# Altium schematic symbol library Capacitors.SchLib: 51 symbols
Pins are listed as number, name and electrical type; pins without a type are passive.

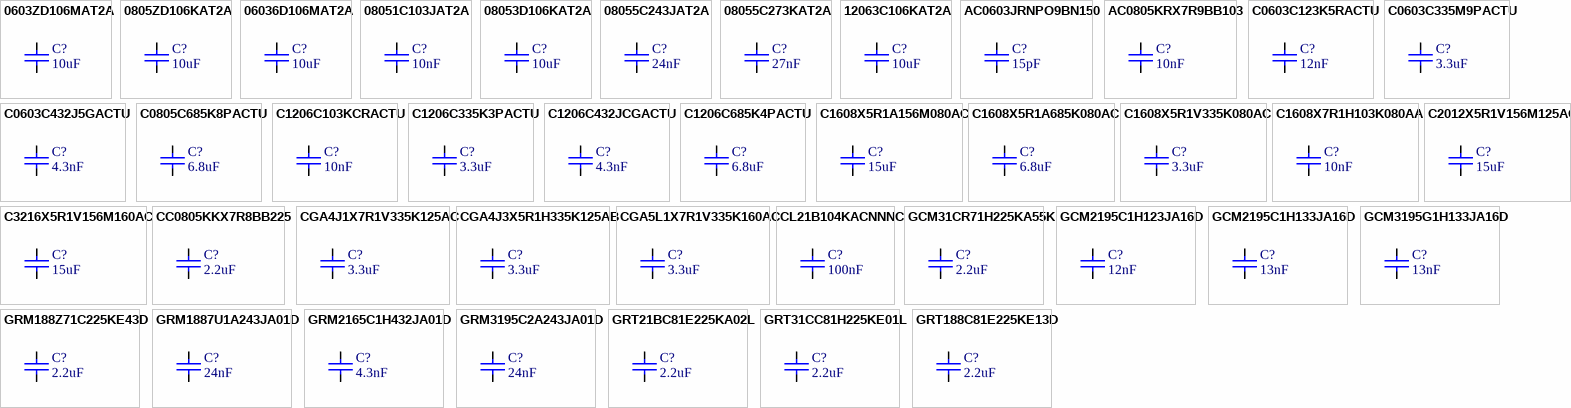
[diagram p0: symbols 0603ZD106MAT2A to GRT188C81E225KE13D]

## 0603ZD106MAT2A
designator C?, comment 10uF
CAP MLCC, 10uF, 10V, 0603 [1608 Metric], ±20%, X5R; Manufacturer: AVX; Manufacturer Part Number: 0603ZD106MAT2A; Value: 10uF; Package: 0603 [1608 Metric]; Supplier 1: Farnell; Supplier Part Number 1: 1867954; ComponentLink1Description: Datasheet; ComponentLink1URL: http://www.farnell.com/datasheets/2237828.pdf; Voltage: 10V; Tolerance: ±20%; Dielectric: X5R; Mounting: SMD; Part Type: MLCC
footprint CAPC1608N (Footprint not found)
pins: 1, 2

## 0805ZD106KAT2A
designator C?, comment 10uF
CAP MLCC, 10uF, 10V, 0805 [2012 Metric], ±10%, X5R; Manufacturer: AVX; Manufacturer Part Number: 0805ZD106KAT2A; Value: 10uF; Package: 0805 [2012 Metric]; Supplier 1: Farnell; Supplier Part Number 1: 1833812; ComponentLink1Description: Datasheet; ComponentLink1URL: http://www.farnell.com/datasheets/2237828.pdf; Voltage: 10V; Tolerance: ±10%; Dielectric: X5R; Mounting: SMD; Part Type: MLCC
footprint CAPC2012N (Chip Capacitor, Body 2.0x1.25mm, IPC Medium Density)
pins: 1, 2

## 06036D106MAT2A
designator C?, comment 10uF
CAP MLCC, 10uF, 6.3V, 0603 [1608 Metric], ±20%, X7R; Manufacturer: AVX; Manufacturer Part Number: 06036D106MAT2A; Value: 10uF; Package: 0603 [1608 Metric]; Supplier 1: Farnell; Supplier Part Number 1: 1833804; ComponentLink1Description: Datasheet; ComponentLink1URL: https://lt.farnell.com/avx/06036d106mat2a/cap-10-f-6-3v-20-x5r-0603/dp/1833804?st=smd%20capacitor; Voltage: 6.3V; Tolerance: ±20%; Dielectric: X7R; Mounting: SMD; Part Type: MLCC
footprint CAPC1608N (Chip Capacitor, Body 1.6x0.8mm, Height 0.55mm, IPC Medium Density)
pins: 1, 2

## 08051C103JAT2A
designator C?, comment 10nF
CAP MLCC, 10nF, 100V, 0805 [2012 Metric], ±5%, X7R; Manufacturer: AVX; Manufacturer Part Number: 08051C103JAT2A; Value: 10nF; Package: 0805 [2012 Metric]; Supplier 1: Farnell; Supplier Part Number 1: 2332713; ComponentLink1Description: Datasheet; ComponentLink1URL: http://www.farnell.com/datasheets/2237835.pdf; Voltage: 100V; Tolerance: ± 5%; Dielectric: X7R; Mounting: SMD; Part Type: MLCC
footprint CAPC2012N (Chip Capacitor, Body 2.0x1.25mm, IPC Medium Density)
pins: 1, 2

## 08053D106KAT2A
designator C?, comment 10uF
CAP MLCC, 10uF, 25V, 0805 [2012 Metric], ±10%, X7R; Manufacturer: AVX; Manufacturer Part Number: 08053D106KAT2A; Value: 10uF; Package: 0805 [2012 Metric]; Supplier 1: Farnell; Supplier Part Number 1: 1867958; ComponentLink1Description: Datasheet; ComponentLink1URL: https://lt.farnell.com/avx/08053d106kat2a/cap-10-f-25v-10-x5r-0805/dp/1867958?st=smd%20capacitor; Voltage: 25V; Tolerance: ± 10%; Dielectric: X7R; Mounting: SMD; Part Type: MLCC
footprint CAPC2012N (Chip Capacitor, Body 2.0x1.25mm, IPC Medium Density)
pins: 1, 2

## 08055C243JAT2A
designator C?, comment 24nF
CAP MLCC, 24nF, 50V, 0805 [2012 Metric], ±5%, X7R; Manufacturer: AVX; Manufacturer Part Number: 08055C243JAT2A; Value: 24nF; Package: 0805 [2012 Metric]; Supplier 1: Mouser; Supplier Part Number 1: 581-08055C243JAT2A; ComponentLink1Description: Datasheet; ComponentLink1URL: https://eu.mouser.com/ProductDetail/AVX/08055C243JAT2A/?qs=sGAEpiMZZMuMW9TJLBQkXsc7mecWxmGaZ7S9zCM%2FAxU%3D; Voltage: 50V; Tolerance: ± 5%; Dielectric: X7R; Mounting: SMD; Part Type: MLCC
footprint CAPC2012N (Footprint not found)
pins: 1, 2

## 08055C273KAT2A
designator C?, comment 27nF
CAP MLCC, 27nF, 50V, 0805 [2012 Metric], ±10%, X7R; Manufacturer: AVX; Manufacturer Part Number: 08055C273KAT2A; Value: 27nF; Package: 0805 [2012 Metric]; Supplier 1: Farnell; Supplier Part Number 1: 2332799; ComponentLink1Description: Datasheet; ComponentLink1URL: http://www.farnell.com/datasheets/2237835.pdf; Voltage: 50V; Tolerance: ±10%; Dielectric: X7R; Mounting: SMD; Part Type: MLCC
footprint CAPC2012N (Chip Capacitor, Body 2.0x1.25mm, IPC Medium Density)
pins: 1, 2

## 12063C106KAT2A
designator C?, comment 10uF
CAP MLCC, 10uF, 25V, 1206 [3216 Metric], ±10%, X7R; Manufacturer: AVX; Manufacturer Part Number: 12063C106KAT2A; Value: 10uF; Package: 1206 [3216 Metric]; Supplier 1: Farnell; Supplier Part Number 1: 2094044; ComponentLink1Description: Datasheet; ComponentLink1URL: http://www.farnell.com/datasheets/2260753.pdf; Voltage: 25V; Tolerance: ±10%; Dielectric: X7R; Mounting: SMD; Part Type: MLCC
footprint CAPC3216N (Chip Capacitor, Body 3.2x1.6mm, IPC Medium Density)
pins: 1, 2

## AC0603JRNPO9BN150
designator C?, comment 15pF
CAP MLCC, 15pF, 50V, 0603 [1608 Metric], ±5%, X7R; Manufacturer: YAGEO; Manufacturer Part Number: AC0603JRNPO9BN150; Value: 15pF; Package: 0603 [1608 Metric]; Supplier 1: Farnell; Supplier Part Number 1: 3368986; ComponentLink1Description: Datasheet; ComponentLink1URL: http://www.farnell.com/datasheets/2899221.pdf; Voltage: 50V; Tolerance: ±5%; Dielectric: X7R; Mounting: SMD; Part Type: MLCC
footprint CAPC1608N (Footprint not found)
pins: 1, 2

## AC0805KRX7R9BB103
designator C?, comment 10nF
CAP MLCC, 10nF, 50V, 0805 [2012 Metric], ±10%, X7R; Manufacturer: YAGEO; Manufacturer Part Number: AC0805KRX7R9BB103; Value: 10nF; Package: 0805 [2012 Metric]; Supplier 1: Farnell; Supplier Part Number 1: 3369005; ComponentLink1Description: Datasheet; ComponentLink1URL: http://www.farnell.com/datasheets/2899221.pdf; Voltage: 50V; Tolerance: ±10%; Dielectric: X7R; Mounting: SMD; Part Type: MLCC
footprint CAPC2012N (Footprint not found)
pins: 1, 2

## C0603C123K5RACTU
designator C?, comment 12nF
CAP MLCC, 12nF, 50V, 0603 [1608 Metric], ±10%, X7R; Manufacturer: KEMET; Manufacturer Part Number: C0603C123K5RACTU; Value: 12nF; Package: 0603 [1608 Metric]; Supplier 1: Farnell; Supplier Part Number 1: 1865534; ComponentLink1Description: Datasheet; ComponentLink1URL: https://lt.farnell.com/kemet/c0603c123k5ractu/cap-0-012-f-50v-10-x7r-0603/dp/1865534?st=0603; Voltage: 50V; Tolerance: ± 10%; Dielectric: X7R; Mounting: SMD; Part Type: MLCC
footprint CAPC1608N (Chip Capacitor, Body 1.6x0.8mm, Height 0.55mm, IPC Medium Density)
pins: 1, 2

## C0603C335M9PACTU
designator C?, comment 3.3uF
CAP MLCC, 3.3uF, 6.3V, 0603 [1608 Metric], ±20%, X5R; Manufacturer: KEMET; Manufacturer Part Number: C0603C335M9PACTU; Value: 3.3uF; Package: 0603 [1608 Metric]; Supplier 1: Farnell; Supplier Part Number 1: 1108324; ComponentLink1Description: Datasheet; ComponentLink1URL: https://api.kemet.com/component-edge/download/specsheet/C0603C335M9PACTU.pdf; Voltage: 6.3V; Tolerance: ± 20%; Dielectric: X5R; Mounting: SMD; Part Type: MLCC
footprint CAPC1608N (Chip Capacitor, Body 1.6x0.8mm, Height 0.55mm, IPC Medium Density)
pins: 1, 2

## C0603C432J5GACTU
designator C?, comment 4.3nF
CAP MLCC, 4.3nF, 50V, 0603 [1608 Metric], ±5%, C0G / NP0; Manufacturer: KEMET; Manufacturer Part Number: C0603C432J5GACTU; Value: 4.3nF; Package: 0603 [1608 Metric]; Supplier 1: Farnell; Supplier Part Number 1: 1865494; ComponentLink1Description: Datasheet; ComponentLink1URL: https://api.kemet.com/component-edge/download/specsheet/C0603C432J5GACTU.pdf; Voltage: 50V; Tolerance: ± 5%; Dielectric: C0G / NP0; Mounting: SMD; Part Type: MLCC
footprint CAPC1608N (Chip Capacitor, Body 1.6x0.8mm, Height 0.55mm, IPC Medium Density)
pins: 1, 2

## C0805C685K8PACTU
designator C?, comment 6.8uF
CAP MLCC, 6.8uF, 10V, 0805 [2012 Metric], ±10%, X5R; Manufacturer: KEMET; Manufacturer Part Number: C0805C685K8PACTU; Value: 6.8uF; Package: 0805 [2012 Metric]; Supplier 1: Farnell; Supplier Part Number 1: 1572632; ComponentLink1Description: Datasheet; ComponentLink1URL: https://api.kemet.com/component-edge/download/specsheet/C0805C685K8PACTU.pdf; Voltage: 10V; Tolerance: ± 10%; Dielectric: X5R; Mounting: SMD; Part Type: MLCC
footprint CAPC2012N (Chip Capacitor, Body 2.0x1.25mm, IPC Medium Density)
pins: 1, 2

## C1206C103KCRACTU
designator C?, comment 10nF
CAP MLCC, 10nF, 500V, 1206 [3216 Metric], ±10%, X7R; Manufacturer: KEMET; Manufacturer Part Number: C1206C103KCRACTU; Value: 10nF; Package: 1206 [3216 Metric]; Supplier 1: Farnell; Supplier Part Number 1: 1288241; ComponentLink1Description: Datasheet; ComponentLink1URL: https://api.kemet.com/component-edge/download/specsheet/C1206C103KCRACTU.pdf; Voltage: 500V; Tolerance: ±10%; Dielectric: X7R; Mounting: SMD; Part Type: MLCC
footprint CAPC3216N (Footprint not found)
pins: 1, 2

## C1206C335K3PACTU
designator C?, comment 3.3uF
CAP MLCC, 3.3uF, 25V, 1206 [3216 Metric], ±10%, X5R; Manufacturer: KEMET; Manufacturer Part Number: C1206C335K3PACTU; Value: 3.3uF; Package: 1206 [3216 Metric]; Supplier 1: Farnell; Supplier Part Number 1: 2773330; ComponentLink1Description: Datasheet; ComponentLink1URL: https://api.kemet.com/component-edge/download/specsheet/C1206C335K3PACTU.pdf; Voltage: 25V; Tolerance: ±10%; Dielectric: X5R; Mounting: SMD; Part Type: MLCC
footprint CAPC3216N (Chip Capacitor, Body 3.2x1.6mm, IPC Medium Density)
pins: 1, 2

## C1206C432JCGACTU
designator C?, comment 4.3nF
CAP MLCC, 4.3nF, 500V, 1206 [3216 Metric], ±5%, C0G / NP0; Manufacturer: KEMET; Manufacturer Part Number: C1206C432JCGACTU; Value: 4.3nF; Package: 1206 [3216 Metric]; Supplier 1: Farnell; Supplier Part Number 1: 3503361; ComponentLink1Description: Datasheet; ComponentLink1URL: https://api.kemet.com/component-edge/download/specsheet/C1206C432JCGACTU.pdf; Voltage: 500V; Tolerance: ± 5%; Dielectric: C0G / NP0; Mounting: SMD; Part Type: MLCC
footprint CAPC3216N (Chip Capacitor, Body 3.2x1.6mm, IPC Medium Density)
pins: 1, 2

## C1206C685K4PACTU
designator C?, comment 6.8uF
CAP MLCC, 6.8 µF, 16 V, 1206 [3216 Metric], ± 10%, X5R; Manufacturer: KEMET; Manufacturer Part Number: C1206C685K4PACTU; Voltage: 16V; Value: 6.8uF; Package: 1206 [3216 Metric]; Supplier 1: Farnell; Supplier Part Number 1: 1572638; ComponentLink1Description: Datasheet; ComponentLink1URL: https://api.kemet.com/component-edge/download/specsheet/C1206C685K4PACTU.pdf; Tolerance: ±10%; Dielectric: X5R; Mounting: SMD; Part Type: MLCC
footprint CAPC3216N (Chip Capacitor, Body 3.2x1.6mm, IPC Medium Density)
pins: 1, 2

## C1608X5R1A156M080AC
designator C?, comment 15uF
CAP MLCC, 15uF, 10V, 0603 [1608 Metric], ±20%, X5R; Manufacturer: TDK; Manufacturer Part Number: C1608X5R1A156M080AC; Value: 15uF; Package: 0603 [1608 Metric]; Supplier 1: Farnell; Supplier Part Number 1: 3416097; ComponentLink1Description: Datasheet; ComponentLink1URL: http://www.farnell.com/datasheets/2859305.pdf; Voltage: 10V; Tolerance: ± 20%; Dielectric: X5R; Mounting: SMD; Part Type: MLCC
footprint CAPC1608N (Chip Capacitor, Body 1.6x0.8mm, Height 0.55mm, IPC Medium Density)
pins: 1, 2

## C1608X5R1A685K080AC
designator C?, comment 6.8uF
CAP MLCC, 6.8uF, 10V, 0603 [1608 Metric], ±10%, X5R; Manufacturer: TDK; Manufacturer Part Number: C1608X5R1A685K080AC; Value: 6.8uF; Package: 0603 [1608 Metric]; Supplier 1: Farnell; Supplier Part Number 1: 2211165; ComponentLink1Description: Datasheet; ComponentLink1URL: http://www.farnell.com/datasheets/2792994.pdf; Voltage: 10V; Tolerance: ±10%; Dielectric: X5R; Mounting: SMD; Part Type: MLCC
footprint CAPC1608N (Chip Capacitor, Body 1.6x0.8mm, Height 0.55mm, IPC Medium Density)
pins: 1, 2

## C1608X5R1V335K080AC
designator C?, comment 3.3uF
CAP MLCC, 3.3uF, 35V, 0603 [1608 Metric], ±10%, X5R; Manufacturer: TDK; Manufacturer Part Number: C1608X5R1V335K080AC; Voltage: 50V; Dielectric: X7R; Value: 3.3uF; Package: 0603 [1608 Metric]; Supplier 1: Farnell; Supplier Part Number 1: 3416108; ComponentLink1Description: Datasheet; ComponentLink1URL: http://www.farnell.com/datasheets/2859305.pdf; Tolerance: ±10%; Mounting: SMD; Part Type: MLCC
footprint CAPC1608N (Chip Capacitor, Body 1.6x0.8mm, Height 0.55mm, IPC Medium Density)
pins: 1, 2

## C1608X7R1H103K080AA
designator C?, comment 10nF
CAP MLCC, 10nF, 50V, 0603 [1608 Metric], ±10%, X7R; Manufacturer: TDK; Manufacturer Part Number: C1608X7R1H103K080AA; Value: 10nF; Package: 0603 [1608 Metric]; Supplier 1: Farnell; Supplier Part Number 1: 1907315; ComponentLink1Description: Datasheet; ComponentLink1URL: http://www.farnell.com/datasheets/2792994.pdf; Voltage: 50V; Tolerance: ±10%; Dielectric: X7R; Mounting: SMD; Part Type: MLCC
footprint CAPC1608N (Chip Capacitor, Body 1.6x0.8mm, Height 0.55mm, IPC Medium Density)
pins: 1, 2

## C2012X5R1V156M125AC
designator C?, comment 15uF
CAP MLCC, 15uF, 35V, 0805 [2012 Metric], ±20%, X5R; Manufacturer: TDK; Manufacturer Part Number: C2012X5R1V156M125AC; Value: 15uF; Package: 0805 [2012 Metric]; Supplier 1: Farnell; Supplier Part Number 1: 3416166; ComponentLink1Description: Datasheet; ComponentLink1URL: http://www.farnell.com/datasheets/2859305.pdf; Voltage: 35V; Tolerance: ± 20%; Dielectric: X5R; Mounting: SMD; Part Type: MLCC
footprint CAPC2012N (Chip Capacitor, Body 2.0x1.25mm, IPC Medium Density)
pins: 1, 2

## C3216X5R1V156M160AC
designator C?, comment 15uF
CAP MLCC, 15uF, 35V, 1206 [3216 Metric], ±20%, X5R; Manufacturer: TDK; Manufacturer Part Number: C3216X5R1V156M160AC; Value: 15uF; Package: 1206 [3216 Metric]; Supplier 1: Farnell; Supplier Part Number 1: 3416223; ComponentLink1Description: Datasheet; ComponentLink1URL: http://www.farnell.com/datasheets/2859305.pdf; Voltage: 35V; Tolerance: ± 20%; Dielectric: X5R; Mounting: SMD; Part Type: MLCC
footprint CAPC3216N (Chip Capacitor, Body 3.2x1.6mm, IPC Medium Density)
pins: 1, 2

## CC0805KKX7R8BB225
designator C?, comment 2.2uF
CAP MLCC, 2.2uF 25V, 0805 [2012 Metric], ±10%, X7R; Manufacturer: YAGEO; Manufacturer Part Number: CC0805KKX7R8BB225; Value: 2.2uF; Package: 0805 [2012 Metric]; Supplier 1: Farnell; Supplier Part Number 1: 1458904; ComponentLink1Description: Datasheet; ComponentLink1URL: http://www.farnell.com/datasheets/2167236.pdf; Voltage: 25V; Tolerance: ±10%; Dielectric: X7R; Mounting: SMD; Part Type: MLCC
footprint CAPC2012N (Chip Capacitor, Body 2.0x1.25mm, IPC Medium Density)
pins: 1, 2

## CGA4J1X7R1V335K125AC
designator C?, comment 3.3uF
CAP MLCC, 3.3uF, 35V, 0805 [2012 Metric], ±10%, X7R; Manufacturer: TDK; Manufacturer Part Number: CGA4J1X7R1V335K125AC; Value: 3.3uF; Package: 0805 [2012 Metric]; Supplier 1: Farnell; Supplier Part Number 1: 3490076; ComponentLink1Description: Datasheet; ComponentLink1URL: http://www.farnell.com/datasheets/2915229.pdf; Voltage: 35V; Tolerance: ±10%; Dielectric: X7R; Mounting: SMD; Part Type: MLCC
footprint CAPC2012N (Chip Capacitor, Body 2.0x1.25mm, IPC Medium Density)
pins: 1, 2

## CGA4J3X5R1H335K125AB
designator C?, comment 3.3uF
CAP MLCC, 3.3uF, 50V, 0805 [2012 Metric], ±10%, X5R; Manufacturer: TDK; Manufacturer Part Number: CGA4J3X5R1H335K125AB; Value: 3.3uF; Package: 0805 [2012 Metric]; Supplier 1: Farnell; Supplier Part Number 1: 2210978; ComponentLink1Description: Datasheet; ComponentLink1URL: http://www.farnell.com/datasheets/1807242.pdf; Voltage: 50V; Tolerance: ± 10%; Dielectric: X5R; Mounting: SMD; Part Type: MLCC
footprint CAPC2012N (Chip Capacitor, Body 2.0x1.25mm, IPC Medium Density)
pins: 1, 2

## CGA5L1X7R1V335K160AC
designator C?, comment 3.3uF
CAP MLCC, 3.3uF, 35V, 1206 [3216 Metric], ± 10%, X7R; Manufacturer: TDK; Manufacturer Part Number: CGA5L1X7R1V335K160AC; Value: 3.3uF; Package: 1206 [3216 Metric]; Supplier 1: Farnell; Supplier Part Number 1: 3651375RL; ComponentLink1Description: Datasheet; ComponentLink1URL: http://www.farnell.com/datasheets/3184188.pdf; Voltage: 35V; Tolerance: ± 10%; Dielectric: X7R; Mounting: SMD; Part Type: MLCC
footprint CAPC3216N (Chip Capacitor, Body 3.2x1.6mm, IPC Medium Density)
pins: 1, 2

## CL21B104KACNNNC
designator C?, comment 100nF
CAP MLCC, 100nF, 25V, 0805 [2012 Metric], ±10%, X7R; Manufacturer: SAMSUNG ELECTRO-MECHANICS; Manufacturer Part Number: CL21B104KACNNNC; Value: 100nF; Package: 0805 [2012 Metric]; Supplier 1: Farnell; Supplier Part Number 1: 3010149; ComponentLink1Description: Datasheet; ComponentLink1URL: http://www.farnell.com/datasheets/2710651.pdf; Voltage: 25V; Tolerance: ±10%; Dielectric: X7R; Mounting: SMD; Part Type: MLCC
footprint CAPC2012N (Chip Capacitor, Body 2.0x1.25mm, IPC Medium Density)
pins: 1, 2

## GCM31CR71H225KA55K
designator C?, comment 2.2uF
CAP MLCC, 2.2uF, 50V, 1206 [3216 Metric], ±10%, X7R; Manufacturer: MURATA; Manufacturer Part Number: GCM31CR71H225KA55K; Value: 2.2uF; Package: 1206 [3216 Metric]; Supplier 1: Farnell; Supplier Part Number 1: 2688488; ComponentLink1Description: Datasheet; ComponentLink1URL: https://4donline.ihs.com/images/VipMasterIC/IC/MURE/MURE-S-A0010578466/MURE-S-A0010578330-1.pdf?hkey=6D3A4C79FDBF58556ACFDE234799DDF0; Voltage: 50V; Tolerance: ±10%; Dielectric: X7R; Mounting: SMD; Part Type: MLCC
footprint CAPC3216N (Chip Capacitor, Body 3.2x1.6mm, IPC Medium Density)
pins: 1, 2

## GCM2195C1H123JA16D
designator C?, comment 12nF
CAP MLCC, 12nF, 50V, 0805 [2012 Metric], ±5%, C0G / NP0; Manufacturer: MURATA; Manufacturer Part Number: GCM2195C1H123JA16D; Value: 12nF; Package: 0805 [2012 Metric]; Supplier 1: Farnell; Supplier Part Number 1: 2218703; ComponentLink1Description: Datasheet; ComponentLink1URL: https://lt.farnell.com/murata/gcm2195c1h123ja16d/cap-12000pf-50v-5-c0g-np0-0805/dp/2218703?st=0805; Voltage: 50V; Tolerance: ± 5%; Dielectric: C0G / NP0; Mounting: SMD; Part Type: MLCC
footprint CAPC2012N (Chip Capacitor, Body 2.0x1.25mm, IPC Medium Density)
pins: 1, 2

## GCM2195C1H133JA16D
designator C?, comment 13nF
CAP MLCC, 13nF, 50V, 0805 [2012 Metric], ±5%, C0G (NP0); Manufacturer: Murata Electronics; Manufacturer Part Number: GCM2195C1H133JA16D; Value: 13nF; Package: 0805 [2012 Metric]; Supplier 1: MOUSER; Supplier Part Number 1: 81-GCM2195C1H133JA6D; ComponentLink1Description: https://eu.mouser.com/datasheet/2/281/GCM2195C1H133JA16_01-1968110.pdf; ComponentLink1URL: https://eu.mouser.com/ProductDetail/Murata-Electronics/GCM2195C1H133JA16D/?qs=hNud%2FORuBR2X2UyW%252B6zWEA%3D%3D; Voltage: 50V; Tolerance: ± 5 %; Dielectric: C0G (NP0); Mounting: SMD; Part Type: MLCC
footprint CAPC2012N (Chip Capacitor, Body 2.0x1.25mm, IPC Medium Density)
pins: 1, 2

## GCM3195G1H133JA16D
designator C?, comment 13nF
CAP MLCC, 13nF, 50V, 1206 [3216 Metric], ±5%, X8G; Manufacturer: Murata Electronics; Manufacturer Part Number: GCM3195G1H133JA16D; Value: 13nF; Package: 1206 [3216 Metric]; Supplier 1: Mouser; Supplier Part Number 1: 81-GCM3195G1H133JA6D; ComponentLink1Description: Datasheet https://eu.mouser.com/datasheet/2/281/GCM3195G1H133JA16_01-1969102.pdf; ComponentLink1URL: https://eu.mouser.com/ProductDetail/Murata-Electronics/GCM3195G1H133JA16D/?qs=QzBtWTOodeXbZr9O%252BNcRtQ%3D%3D; Voltage: 50V; Tolerance: ± 5%; Dielectric: X8G; Mounting: SMD; Part Type: MLCC
footprint CAPC3216N (Chip Capacitor, Body 3.2x1.6mm, IPC Medium Density)
pins: 1, 2

## GRM188Z71C225KE43D
designator C?, comment 2.2uF
CAP MLCC, 2.2uF, 16V, 0603 [1608 Metric], ±10%, X7R; Manufacturer: MURATA; Manufacturer Part Number: GRM188Z71C225KE43D; Value: 2.2uF; Package: 0603 [1608 Metric]; Supplier 1: Farnell; Supplier Part Number 1: 3581383; ComponentLink1Description: Datasheet; ComponentLink1URL: https://4donline.ihs.com/images/VipMasterIC/IC/MURE/MURE-S-A0010565743/MURE-S-A0010565293-1.pdf?hkey=6D3A4C79FDBF58556ACFDE234799DDF0; Voltage: 16V; Tolerance: ±10%; Dielectric: X7R; Mounting: SMD; Part Type: MLCC
footprint CAPC1608N (Chip Capacitor, Body 1.6x0.8mm, Height 0.55mm, IPC Medium Density)
pins: 1, 2

## GRM1887U1A243JA01D
designator C?, comment 24nF
CAP MLCC, 24nF, 100V, 0603 [1608 Metric], ±5%, U2J; Manufacturer: Murata Electronics; Manufacturer Part Number: GRM1887U1A243JA01D; Voltage: 10V; Value: 24nF; Package: 0603 [1608 Metric]; Supplier 1: Mouser; Supplier Part Number 1: 81-GRM1887U1A243JA1D; ComponentLink1Description: Datasheet; ComponentLink1URL: https://eu.mouser.com/ProductDetail/Murata-Electronics/GRM1887U1A243JA01D/?qs=ui%252B2d9lVEI5YGHIEW3U78Q%3D%3D; Tolerance: ± 5%; Dielectric: U2J; Mounting: SMD; Part Type: MLCC
footprint CAPC1608N (Footprint not found)
pins: 1, 2

## GRM2165C1H432JA01D
designator C?, comment 4.3nF
CAP MLCC, 4.3nF, 250V, 0805 [2012 Metric], ±5%, C0G / NP0; Manufacturer: MURATA; Manufacturer Part Number: GRM2165C1H432JA01D; Voltage: 50V; Value: 4.3nF; Package: 0805 [2012 Metric]; Supplier 1: Farnell; Supplier Part Number 1: 3581388; ComponentLink1Description: Datasheet; ComponentLink1URL: https://4donline.ihs.com/images/VipMasterIC/IC/MURE/MURE-S-A0010861478/MURE-S-A0010860847-1.pdf?hkey=6D3A4C79FDBF58556ACFDE234799DDF0; Tolerance: ± 5%; Dielectric: C0G / NP0; Mounting: SMD; Part Type: MLCC
footprint CAPC2012N (Chip Capacitor, Body 2.0x1.25mm, IPC Medium Density)
pins: 1, 2

## GRM3195C2A243JA01D
designator C?, comment 24nF
CAP MLCC, 24nF, 100V, 1206 [3216 Metric], ± 5%, C0G (NP0); Manufacturer: Murata; Manufacturer Part Number: GRM3195C2A243JA01D; Value: 24nF; Package: 1206 [3216 Metric]; Supplier 1: Mouser; Supplier Part Number 1: 81-GRM3195C2A243JA1D; ComponentLink1Description: Datasheet; ComponentLink1URL: https://eu.mouser.com/ProductDetail/Murata-Electronics/GRM3195C2A243JA01D/?qs=qkDYIeTQ%252BEk%2Fn3fDsYoCdQ%3D%3D; Voltage: 100V; Tolerance: ± 5%; Dielectric: C0G (NP0); Mounting: SMD; Part Type: MLCC
footprint CAPC3216N (Footprint not found)
pins: 1, 2

## GRT21BC81E225KA02L
designator C?, comment 2.2uF
CAP MLCC, 2.2uF, 25V, 0805 [2012 Metric], ±10%, X6S; Manufacturer: MURATA; Manufacturer Part Number: GRT21BC81E225KA02L; Value: 2.2uF; Package: 0805 [2012 Metric]; Supplier 1: Farnell; Supplier Part Number 1: 2672181RL; ComponentLink1Description: Datasheet; ComponentLink1URL: http://www.farnell.com/datasheets/2165980.pdf; Voltage: 25V; Tolerance: ±10%; Dielectric: X6S; Mounting: SMD; Part Type: MLCC
footprint CAPC2012N (Chip Capacitor, Body 2.0x1.25mm, IPC Medium Density)
pins: 1, 2

## GRT31CC81H225KE01L
designator C?, comment 2.2uF
CAP MLCC, 2.2uF, 50V, 1206 [3216 Metric], ±10%, X6S; Manufacturer: MURATA; Manufacturer Part Number: GRT31CC81H225KE01L; Value: 2.2uF; Package: 1206 [3216 Metric]; Supplier 1: Farnell; Supplier Part Number 1: 2672206; ComponentLink1Description: Datasheet; ComponentLink1URL: http://www.farnell.com/datasheets/2166004.pdf; Voltage: 50V; Tolerance: ±10%; Dielectric: X6S; Mounting: SMD; Part Type: MLCC
footprint CAPC3216N (Chip Capacitor, Body 3.2x1.6mm, IPC Medium Density)
pins: 1, 2

## GRT188C81E225KE13D
designator C?, comment 2.2uF
CAP MLCC, 2.2uF, 25V, 0603 [1608 Metric], ±10%, X6S; Manufacturer: MURATA; Manufacturer Part Number: GRT188C81E225KE13D; Value: 2.2uF; Package: 0603 [1608 Metric]; Supplier 1: Farnell; Supplier Part Number 1: 2672150; ComponentLink1Description: Datasheet; ComponentLink1URL: http://www.farnell.com/datasheets/2165949.pdf; Voltage: 25V; Tolerance: ±10%; Dielectric: X6S; Mounting: SMD; Part Type: MLCC
footprint CAPC1608N (Chip Capacitor, Body 1.6x0.8mm, Height 0.55mm, IPC Medium Density)
pins: 1, 2

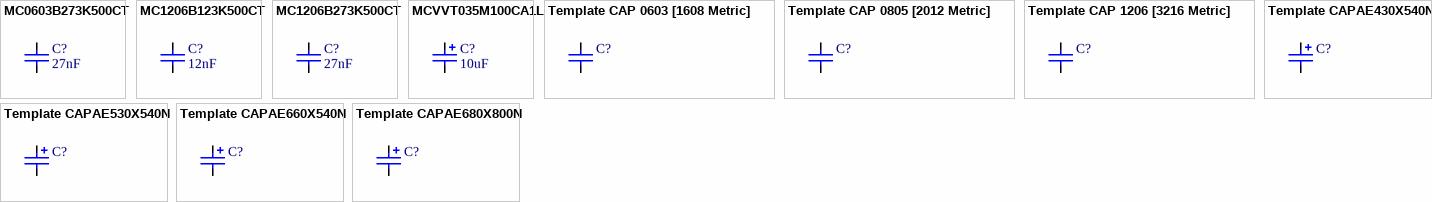
[diagram p1: symbols MC0603B273K500CT to Template CAPAE680X800N]

## MC0603B273K500CT
designator C?, comment 27nF
CAP MLCC, 27nF, 50V, 0603 [1608 Metric], ±10%, X7R; Manufacturer: MULTICOMP PRO; Manufacturer Part Number: MC0603B273K500CT; Value: 27nF; Package: 0603 [1608 Metric]; Supplier 1: Farnell; Supplier Part Number 1: 1759111; ComponentLink1Description: Datasheet; ComponentLink1URL: http://www.farnell.com/datasheets/2860632.pdf; Voltage: 50V; Tolerance: ± 10%; Dielectric: X7R; Mounting: SMD; Part Type: MLCC
footprint CAPC1608N (Chip Capacitor, Body 1.6x0.8mm, Height 0.55mm, IPC Medium Density)
pins: 1, 2

## MC1206B123K500CT
designator C?, comment 12nF
CAP MLCC, 12nF, 50V, 1206 [3216 Metric], ± 10%, X7R; Manufacturer: MULTICOMP PRO; Manufacturer Part Number: MC1206B123K500CT; Value: 12nF; Package: 1206 [3216 Metric]; Supplier 1: Farnell; Supplier Part Number 1: 1759351; ComponentLink1Description: Datasheet; ComponentLink1URL: https://lt.farnell.com/multicomp/mc1206b123k500ct/cap-0-012-f-50v-10-x7r-1206/dp/1759351?st=1206; Voltage: 50V; Tolerance: ± 10%; Dielectric: X7R; Mounting: SMD; Part Type: MLCC
footprint CAPC3216N (Chip Capacitor, Body 3.2x1.6mm, IPC Medium Density)
pins: 1, 2

## MC1206B273K500CT
designator C?, comment 27nF
CAP MLCC, 27nF, 50V, 1206 [3216 Metric], ±10%, X7R; Manufacturer: MULTICOMP PRO; Manufacturer Part Number: MC1206B273K500CT; Value: 27nF; Package: 1206 [3216 Metric]; Supplier 1: Farnell; Supplier Part Number 1: 1759355; ComponentLink1Description: Datasheet; ComponentLink1URL: http://www.farnell.com/datasheets/2860632.pdf; Voltage: 50V; Tolerance: ± 10%; Dielectric: X7R; Mounting: SMD; Part Type: MLCC
footprint CAPC3216N (Chip Capacitor, Body 3.2x1.6mm, IPC Medium Density)
pins: 1, 2

## MCVVT035M100CA1L
designator C?, comment 10uF
CAP Aluminium Electrolytic, 10uF, 35V, 4.3mm L x 4.3mm W x W 5.4mm H; Manufacturer: MULTICOMP PRO; Manufacturer Part Number: MCVVT035M100CA1L; Value: 10uF; Package: 4.3mm L x 4.3mm W x W 5.4mm H; Supplier 1: Farnell; Supplier Part Number 1: 2611379; ComponentLink1Description: Datasheet; ComponentLink1URL: http://www.farnell.com/datasheets/2873546.pdf; Voltage: 35V; Dielectric: Aluminium; Mounting: SMD; Part Type: Electrolytic
footprint CAPAE430X540N (Capacitor, Aluminium Electrolytric, 4.3mm L X 4.3mm W X 5.4mm H, IPC Medium Density)
pins: 1, 2

## Template CAP 0603 [1608 Metric]
designator C?
CAP MLCC, 100nF, 25V, 0603 [1608 Metric], ±10%, X7R; Package: 0603 [1608 Metric]; ComponentLink1Description: Datasheet; Mounting: SMD; Part Type: MLCC
footprint CAPC1608N (Chip Capacitor, Body 1.6x0.8mm, Height 0.55mm, IPC Medium Density)
pins: 1, 2

## Template CAP 0805 [2012 Metric]
designator C?
CAP MLCC, 100nF, 25V, 0805 [2012 Metric], ±10%, X7R; Package: 0805 [2012 Metric]; ComponentLink1Description: Datasheet; Mounting: SMD; Part Type: MLCC
footprint CAPC2012N (Chip Capacitor, Body 2.0x1.25mm, IPC Medium Density)
pins: 1, 2

## Template CAP 1206 [3216 Metric]
designator C?
CAP MLCC, 100nF, 25V, 1206 [3216 Metric], ±10%, X7R; Package: 1206 [3216 Metric]; ComponentLink1Description: Datasheet; Mounting: SMD; Part Type: MLCC
footprint CAPC3216N (Chip Capacitor, Body 3.2x1.6mm, IPC Medium Density)
pins: 1, 2

## Template CAPAE430X540N
designator C?
CAP Aluminium Electrolytic, 10uF, 35V, 4.3mm L x 4.3mm W x W 5.4mm H; Package: 4.3mm L x 4.3mm W x W 5.4mm H; ComponentLink1Description: Datasheet; Dielectric: Aluminium; Mounting: SMD; Part Type: Electrolytic
footprint CAPAE430X540N (Capacitor, Aluminium Electrolytric, 4.3mm L X 4.3mm W X 5.4mm H, IPC Medium Density)
pins: 1, 2

## Template CAPAE530X540N
designator C?
CAP Aluminium Electrolytic, 10uF, 35V, 5.3mm L X 5.3mm W X 5.4mm H; Package: 5.3mm L X 5.3mm W X 5.4mm H; ComponentLink1Description: Datasheet; Dielectric: Aluminium; Mounting: SMD; Part Type: Electrolytic
footprint CAPAE530X540N (Capacitor, Aluminium Electrolytric, 5.3mm L X 5.3mm W X 5.4mm H, IPC Medium Density)
pins: 1, 2

## Template CAPAE660X540N
designator C?
CAP Aluminium Electrolytic, 10uF, 35V, 6.6mm L X 6.6mm W X 5.4mm H; Package: 6.6mm L X 6.6mm W X 5.4mm H; ComponentLink1Description: Datasheet; Dielectric: Aluminium; Mounting: SMD; Part Type: Electrolytic
footprint CAPAE660X540N (Capacitor, Aluminium Electrolytric, 6.6mm L X 6.6mm W X 5.4mm H, IPC Medium Density)
pins: 1, 2

## Template CAPAE680X800N
designator C?
CAP Aluminium Electrolytic, 10uF, 35V, 6.8mm L X 6.8mm W X 8mm H; Package: 6.8mm L X 6.8mm W X 8mm H; ComponentLink1Description: Datasheet; Dielectric: Aluminium; Mounting: SMD; Part Type: Electrolytic
footprint CAPAE680X800N (Capacitor, Aluminium Electrolytric, 6.8mm L X 6.8mm W X 8mm H, IPC Medium Density)
pins: 1, 2